# Altium schematic symbol library Schlib1.SchLib: 2 symbols
Pins are listed as number, name and electrical type; pins without a type are passive.

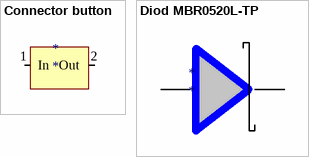
[diagram p0: symbols Connector button to Diod MBR0520L-TP]

## Connector button
designator *
footprint Button_connector
pins: 1 In, 2 Out

## Diod MBR0520L-TP
designator *
footprint SOD3716X135N
pins: A 26, C 26